# Altium footprint library Ahrist_Library.PcbLib: 172 footprints (part 9 of 11)
Each footprint in its own frame and in the unit in brackets; x right, y up, seen from the top. Pads: shape width x height; smd on the part's side, far side on the other; paste and mask are expansions set on the pad; w line width, h text height; cw(c..) or ccw(c..) is an arc to the next point about the centre after c.
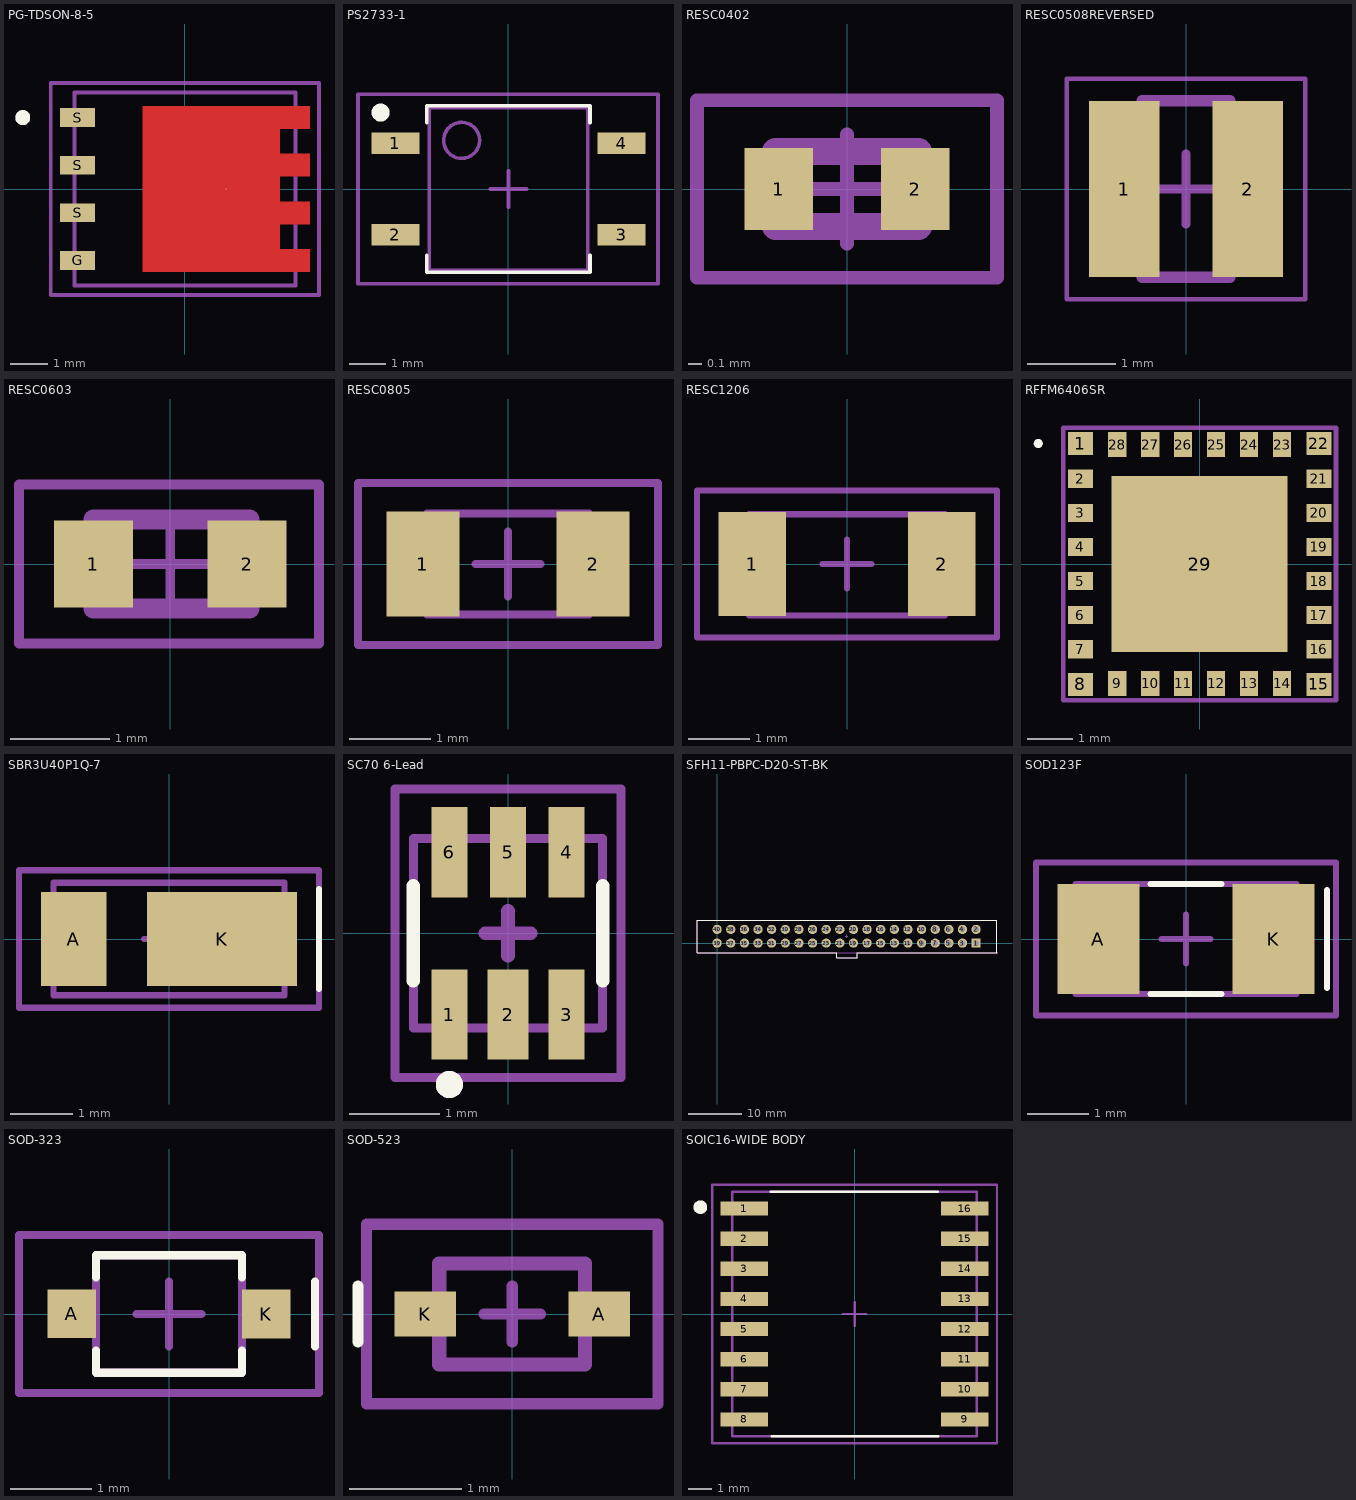
[diagram p8: the footprints below, top view; thin cyan lines are the x and y axes]

## PG-TDSON-8-5 [mm] "PG-TDSON-8-5 MOSFET Pacakge"
pads (5):
  round 0.025 smd: D(1.097,0)
  rect 0.925x0.5 smd paste-0.05: G(-2.865,-1.905) S(-2.865,-0.635) S(-2.865,0.635) S(-2.865,1.905)
Top Layer:
  region: 3.325,1.605 2.525,1.605 2.525,0.935 3.325,0.935 3.325,0.335 2.525,0.335 2.525,-0.335 3.325,-0.335 3.325,-0.935 2.525,-0.935 2.525,-1.605 3.325,-1.605 3.325,-2.205 -1.13,-2.205 -1.13,2.205 3.325,2.205
Top Overlay:
  circle w0.2: c-4.327,1.905 r0.1
Top Paste:
  region: 2.325,-1.6 0.825,-1.6 0.825,-0.1 2.325,-0.1
  region: 0.625,-1.6 -0.875,-1.6 -0.875,-0.1 0.625,-0.1
  region: 2.325,0.1 0.825,0.1 0.825,1.6 2.325,1.6
  region: 0.625,0.1 -0.875,0.1 -0.875,1.6 0.625,1.6
  region: 3.275,-2.155 2.525,-2.155 2.525,-1.655 3.275,-1.655
  region: 3.275,-0.885 2.525,-0.885 2.525,-0.385 3.275,-0.385
  region: 3.275,0.385 2.525,0.385 2.525,0.885 3.275,0.885
  region: 3.275,1.655 2.525,1.655 2.525,2.155 3.275,2.155
Top Solder:
  region: 3.425,1.505 2.625,1.505 2.625,1.035 3.425,1.035 3.425,0.235 2.625,0.235 2.625,-0.235 3.425,-0.235 3.425,-1.035 2.625,-1.035 2.625,-1.505 3.425,-1.505 3.425,-2.305 -1.23,-2.305 -1.23,2.305 3.425,2.305
Top Courtyard:
  lines w0.1: -3.578,-2.825 -3.578,2.825 3.575,2.825 3.575,-2.825 -3.578,-2.825
Top Assembly:
  circle w0.2: c-4.327,1.905 r0.1
  lines w0.1: -2.95,-2.575 2.95,-2.575 2.95,2.575 -2.95,2.575 -2.95,-2.575
  text ".Designator" at -2,-0.214 h1.52
Top Component Center:
  lines w0.1: -0.5,0 0,0 ; 0,0.5 0,0 ; 0,0 0,-0.5 0,0 ; 0,0 0.5,0 0,0
3D body "step_temp.STEP": height 1.1, standoff 0, extent -3.075,-2.575 3.075,2.575

## PS2733-1 [mm] "Transistor Output Optocouplers Hi Col-Emit Dar 1-Ch"
pads (4):
  rrect1% 1.325x0.6 smd: 1(-3.137,1.27) 2(-3.137,-1.27) 3(3.137,-1.27) 4(3.137,1.27)
Top Overlay:
  circle w0.25: c-3.55,2.12 r0.125
  lines w0.1: -2.264,-1.833 -2.264,-2.314 2.264,-2.314 2.264,-1.833 ; -2.264,1.833 -2.264,2.314 2.264,2.314 2.264,1.833
Top Courtyard:
  lines w0.1: -4.175,-2.625 4.15,-2.625 4.15,2.625 -4.175,2.625 -4.175,-2.625
Top Assembly:
  circle w0.1: c-1.3,1.35 r0.5
  lines w0.1: -2.2,-2.25 -2.2,2.25 2.2,2.25 2.2,-2.25 -2.2,-2.25
  text ".Designator" at -0.725,-0.239 h1.52
Top Component Center:
  lines w0.1: -0.5,0 0.5,0 ; 0,-0.5 0,0.5
3D body "SOP254P700X230_HS-5_SOP-OPTO3.STEP": height 0.25, standoff 0, extent -3.9,-2.35 3.9,2.35

## RESC0402 [mm] "Chip Resistor, 2-Leads, Body 1.00x0.50mm, IPC Medium Density"
pads (2):
  rect 0.5x0.6 smd mask+0.1: 1(-0.5,0) 2(0.5,0)
Top Courtyard:
  lines w0.1: -1.1,-0.65 -1.1,0.65 -0.5,0.65 1.1,0.65 1.1,-0.65 -1.1,-0.65
Top Assembly:
  lines w0.2: -0.525,-0.275 0.525,-0.275 0.525,0.275 -0.525,0.275 -0.525,-0.275
  text ".Designator" at 0.595,-0.105 h0.3
Top Component Center:
  lines w0.1: -0.4,0 0,0 ; 0,-0.4 0,0 ; 0,0.4 0,0 ; 0.4,0 0,0
3D body "RES0402.STEP": height 0.18, standoff -0.18, extent -0.5,-0.255 0.5,0.255

## RESC0508REVERSED [mm]
pads (2):
  rect 0.8x2 smd: 1(-0.7,0) 2(0.7,0)
Top Courtyard:
  lines w0.05: -1.35,-1.25 1.35,-1.25 1.35,1.25 -1.35,1.25 -1.35,-1.25
Top Assembly:
  lines w0.127: -0.5,-1 0.5,-1 0.5,1 -0.5,1 -0.5,-1
  text ".Designator" at -0.43,0.237 h0.5
Top Component Center:
  lines w0.1: -0.4,0 0,0 ; 0,-0.4 0,0 ; 0,0.4 0,0 ; 0.4,0 0,0
3D body "step_temp.STEP": height 0.5, standoff 0, extent -0.625,-1 0.625,1

## RESC0603 [mm] "Chip Resistor, 2-Leads, Body 1.60x0.80mm, IPC Medium Density"
height 0.64
pads (2):
  rect 0.8x0.875 smd mask+0.1: 1(-0.774,0) 2(0.774,0)
Top Courtyard:
  lines w0.1: -1.525,-0.8 -1.525,0.8 -0.775,0.8 1.5,0.8 1.5,-0.8 -1.525,-0.8
Top Assembly:
  lines w0.2: -0.775,-0.45 0.8,-0.45 0.8,0.45 -0.775,0.45 -0.775,-0.45
  text ".Designator" at -0.375,-0.058 h0.2
Top Component Center:
  lines w0.1: -0.4,0 0,0 ; 0,-0.4 0,0 ; 0,0.4 0,0 ; 0,0 0.4,0 0,0
3D body "RES0603.STEP": height 0.45, standoff -0.01, extent -0.775,-0.43 0.775,0.43

## RESC0805 [mm] "Chip Resistor, 2-Leads, Body 1.00x0.50mm, IPC Medium Density"
height 0.35
pads (2):
  rect 0.9x1.3 smd: 1(-1.05,0) 2(1.05,0)
Top Courtyard:
  lines w0.1: -1.85,-1 1.85,-1 1.85,1 -1.175,1 -1.85,1 -1.85,-1
Top Assembly:
  lines w0.1: -1,-0.625 1,-0.625 1,0.625 -1,0.625 -1,-0.625
Top Designator:
  text ".Designator" at -0.775,-0.158 h0.5
Top Component Center:
  lines w0.1: 0,-0.4 0,0 ; 0,0 0,0.4 0,0 ; 0,0 -0.4,0 0.4,0 0,0
3D body "RES0805.STEP": height 0.45, standoff 0, extent -1,-0.63 1,0.63

## RESC1206 [mm] "Chip Resistor, 2-Leads, Body 3.2x1.60mm, IPC Medium Density"
pads (2):
  rect 1.1x1.7 smd mask+0.1: 1(-1.55,0) 2(1.55,0)
Top Courtyard:
  lines w0.1: -1.5,1.2 -2.45,1.2 ; -2.45,1.2 -2.45,-1.2 2.45,-1.2 2.45,1.2 -2.45,1.2
Top Assembly:
  lines w0.1: -1.6,-0.838 -1.6,0.813 1.6,0.813 1.6,-0.838 -1.6,-0.838
Top Designator:
  text ".Designator" at -0.968,-0.303 h0.7
Top Component Center:
  lines w0.1: 0,-0.4 0,0 ; 0,0 0,0.4 0,0 ; 0,0 -0.4,0 0.4,0 0,0
3D body "1206.step": height 0.5, standoff 0, extent -1.6,-0.8 1.6,0.8

## RFFM6406SR [mm] "RFFM6406SR - LGA-28"
pads (29):
  rect 0.55x0.5 smd mask+0.075: 1(-2.625,2.65) 8(-2.625,-2.65) 15(2.625,-2.65) 22(2.625,2.65)
  rect 0.55x0.4 smd mask+0.075: 2(-2.625,1.875) 3(-2.625,1.125) 4(-2.625,0.375) 5(-2.625,-0.375) 6(-2.625,-1.125) 7(-2.625,-1.875) 16(2.625,-1.875) 17(2.625,-1.125) 18(2.625,-0.375) 19(2.625,0.375) 20(2.625,1.125) 21(2.625,1.875)
  rect 0.4x0.55 smd mask+0.075: 9(-1.813,-2.625) 10(-1.088,-2.625) 11(-0.363,-2.625) 12(0.363,-2.625) 13(1.088,-2.625) 14(1.813,-2.625) 23(1.813,2.625) 24(1.088,2.625) 25(0.363,2.625) 26(-0.363,2.625) 27(-1.088,2.625) 28(-1.813,2.625)
  rect 3.875x3.875 smd mask+0.075: 29(0,0)
Top Overlay:
  lines w0.1: -3.6,2.65 ccw(c-3.55,2.65) -3.5,2.65 ccw(c-3.55,2.65) -3.6,2.65
Top Assembly:
  circle w0.1: c-2.613,2.626 r0.049
  lines w0.1: -3,-3 3,-3 3,3 -3,3 -3,-3
Top Designator:
  text ".Designator" at -0.927,-0.144 h0.6
Top Component Outline:
  lines w0.1: -3,-3 3,-3 3,3 -3,3 -3,-3
Top Component Center:
  lines w0.1: -0.25,0 0,0 ; 0,-0.25 0,0 ; 0,0.25 0,0 ; 0.25,0 0,0
3D body "RFFM6406SR.stp": height 1.15, standoff 0, extent -3,-3 3,3

## SBR3U40P1Q-7 [mm] "Schottky Diodes & Rectifiers 3.0A SBR PowerDI 40Vrrm 0.47Vf 400uA"
pads (2):
  rect 1.05x1.5 smd mask+0.1: A(-1.525,0)
  rect 2.4x1.5 smd mask+0.1: K(0.85,0)
Top Overlay:
  lines w0.1: 2.4,-0.8 2.4,0 2.4,0.8
Top Courtyard:
  lines w0.1: -2.4,-1.1 -2.4,-0.025 -2.4,1.1 2.4,1.1 2.4,-1.1 -2.4,-1.1
Top Assembly:
  lines w0.1: -1.85,-0.9 -1.85,0.9 1.85,0.9 1.85,-0.9 -1.85,-0.9
Top Designator:
  text ".Designator" at -0.705,-0.088 h0.5
Top Component Center:
  lines w0.1: -0.4,0 0,0 ; 0,-0.4 0,0 ; 0,0.4 0,0 ; 0.4,0 0,0
3D body "SBR3U40P1-7.STEP": height 1, standoff 0, extent -1.85,-0.89 1.85,0.89

## SC70 6-Lead [mm]
pads (6):
  rect 0.4x1 smd mask+0.075: 1(-0.65,-0.9) 3(0.65,-0.9) 4(0.65,0.9) 5(0,0.9) 6(-0.65,0.9)
  rect 0.45x1 smd mask+0.075: 2(0,-0.9)
Top Overlay:
  circle w0.2: c-0.65,-1.675 r0.05
  lines w0.15: -1.05,-0.525 -1.05,0 -1.05,0.525 ; 1.05,-0.525 1.05,0 1.05,0.525
Top Courtyard:
  lines w0.1: -1.25,-1.6 1.25,-1.6 1.25,1.6 -0.6,1.6 -1.25,1.6 -1.25,-1.6
Top Assembly:
  circle w0.2: c-0.65,-1.675 r0.05
  lines w0.1: -1.05,0.225 -1.05,1.05 1.05,1.05 1.05,-1.05 -1.05,-1.05 -1.05,0.275
Top Designator:
  text ".Designator" at -0.59,-0.065 h0.6
Top Component Outline:
  lines w0.1: -1.05,0.225 -1.05,1.05 1.05,1.05 1.05,-1.05 -1.05,-1.05 -1.05,0.275
Top Component Center:
  lines w0.15: 0,-0.25 0,0 ; 0,0 0,0.25 0,0 ; 0,0 0.25,0 -0.25,0 0,0
3D body "PE4259.STEP": height 1.1, standoff 0, extent -1.05,-1.05 1.05,1.05

## SFH11-PBPC-D20-ST-BK [mm] "CONN HDR 40POS 0.1 GOLD PCB"
pads (40):
  rect 1.72x1.72 hole 1.02: 1(48.26,0)
  round 1.72 hole 1.02: 2(48.26,2.54) 3(45.72,0) 4(45.72,2.54) 5(43.18,0) 6(43.18,2.54) 7(40.64,0) 8(40.64,2.54) 9(38.1,0) 10(38.1,2.54) 11(35.56,0) 12(35.56,2.54) 13(33.02,0) 14(33.02,2.54) 15(30.48,0) 16(30.48,2.54) 17(27.94,0) 18(27.94,2.54) 19(25.4,0) 20(25.4,2.54) 21(22.86,0) 22(22.86,2.54) 23(20.32,0) 24(20.32,2.54) 25(17.78,0) 26(17.78,2.54) 27(15.24,0) 28(15.24,2.54) 29(12.7,0) 30(12.7,2.54) 31(10.16,0) 32(10.16,2.54) 33(7.62,0) 34(7.62,2.54) 35(5.08,0) 36(5.08,2.54) 37(2.54,0) 38(2.54,2.54) 39(0,0) 40(0,2.54)
Top Overlay:
  lines w0.1: 22.3,-1.825 22.3,-1.775 ; 26.1,-1.925 26.1,-1.76 52.15,-1.76 52.15,1.27 52.15,4.3 -3.75,4.3 -3.75,-1.775 22.3,-1.775 ; 26.1,-1.775 26.1,-2.775 22.3,-2.775 22.3,-1.775
Top Assembly:
  lines w0.1: -3.75,-1.76 52.15,-1.76 52.15,1.27 52.15,4.3 -3.75,4.3 -3.75,-1.75
  text ".Designator" at 20.085,0.985 h0.6
Top Component Outline:
  lines w0.1: 22.3,-1.825 22.3,-1.775 ; 26.1,-1.925 26.1,-1.76 52.15,-1.76 52.15,1.27 52.15,4.3 -3.75,4.3 -3.75,-1.775 22.3,-1.775 ; 26.1,-1.775 26.1,-2.775 22.3,-2.775 22.3,-1.775
Top Component Center:
  lines w0.1: 23.875,1.275 24.125,1.275 24.125,1.025 ; 24.13,1.52 24.13,1.27 24.38,1.27
3D body "SFH11-PBPC-D20-ST-BK--3DModel-STEP-56544.STEP": height 8.51, standoff -3.2, extent -3.74,-2.713 52.14,4.297

## SMBJ188A [mm] "328V Clamp 2A Ipp Tvs Diode Surface Mount DO-214AA (SMBJ)"

## SOD123F [mm] "SOD123F"
pads (2):
  rect 1.34x1.8 smd mask+0.1: A(-1.43,0) K(1.43,0)
Top Overlay:
  lines w0.1: -0.575,-0.9 0.575,-0.9 ; -0.575,0.9 0.575,0.9 ; 2.3,-0.8 2.3,0 2.3,0.8
Top Courtyard:
  lines w0.1: -2.45,-1.25 -1.05,-1.25 2.45,-1.25 2.45,1.25 -2.45,1.25 -2.45,-1.25
Top Assembly:
  lines w0.1: -1.8,-0.9 -1.8,0.9 -0.5,0.9 1.8,0.9 1.8,-0.9 -1.8,-0.9
  text ".Designator" at -0.83,-0.13 h0.3
Top Component Center:
  lines w0.1: -0.4,0 0,0 ; 0,-0.4 0,0 ; 0,0.4 0,0 ; 0.4,0 0,0
3D body "SOD-123F.step": height 1.02, standoff 0, extent -1.9,-0.9 1.9,0.9

## SOD-323 [mm] "SOD-323 small outline"
pads (2):
  rect 0.6x0.6 smd mask+0.1: A(-1.2,0.001) K(1.2,0)
Top Overlay:
  lines w0.1: -0.9,-0.45 -0.9,-0.725 0.9,-0.725 0.9,-0.45 ; -0.9,0.45 -0.9,0.725 0.9,0.725 0.9,0.45 ; 1.8,-0.4 1.8,0 1.8,0.4
Top Courtyard:
  lines w0.1: -1.85,-0.975 -1.85,0.975 1.85,0.975 1.85,0.05 1.85,-0.975 -0.025,-0.975 -1.85,-0.975
Top Assembly:
  lines w0.1: -0.9,-0.725 -0.9,0.725 0.9,0.725 0.9,-0.725 0.05,-0.725 -0.9,-0.725
Top Component Center:
  lines w0.1: -0.4,0 0,0 ; 0,-0.4 0,0 ; 0,0.4 0,0 ; 0.4,0 0,0
3D body "SOD-323.STEP": height 1.17, standoff 0.02, extent -1.35,-0.723 1.35,0.723

## SOD-523 [mm] "SOD-523"
pads (2):
  rect 0.55x0.4 smd mask+0.05: A(0.775,0) K(-0.775,0)
Top Overlay:
  lines w0.1: -1.375,-0.25 -1.375,0.25
Top Courtyard:
  lines w0.1: -1.3,-0.8 -1.3,0.8 1.3,0.8 1.3,-0.8 -1.3,-0.8
Top Assembly:
  lines w0.127: -0.65,-0.45 -0.65,0.45 0.65,0.45 0.65,-0.45 -0.65,-0.45
Top Designator:
  text ".Designator" at -0.226,-0.105 h0.6
Top Component Outline:
  lines w0.127: -0.65,-0.45 -0.65,0.45 0.65,0.45 0.65,-0.45 -0.65,-0.45
Top Component Center:
  lines w0.1: 0,-0.25 0,0 ; 0,0 0,0.25 0,0 ; 0,0 0.25,0 -0.25,0 0,0
3D body "step_temp.STEP": height 0.65, standoff 0, extent -0.8,-0.4 0.8,0.4

## SOIC16-WIDE BODY [mm]
pads (16):
  rect 2x0.6 smd mask+0.1: 1(-4.65,4.445) 2(-4.65,3.175) 3(-4.65,1.905) 4(-4.65,0.635) 5(-4.65,-0.635) 6(-4.65,-1.905) 7(-4.65,-3.175) 8(-4.65,-4.445) 9(4.65,-4.445) 10(4.65,-3.175) 11(4.65,-1.905) 12(4.65,-0.635) 13(4.65,0.635) 14(4.65,1.905) 15(4.65,3.175) 16(4.65,4.445)
Top Overlay:
  circle w0.3: c-6.5,4.5 r0.14
  lines w0.1: -3.525,5.15 3.5,5.15 ; -3.5,-5.15 3.525,-5.15
Top Courtyard:
  lines w0.1: -6,-5.45 -6,4.175 -6,5.45 6,5.45 6,-5.45 -5.975,-5.45 -6,-5.45
Top Assembly:
  lines w0.1: -5.15,-5.15 -5.15,5.15 5.15,5.15 5.15,-5.15 -5.15,-5.15
  text ".Designator" at -0.93,-0.263 h0.5
Top Component Center:
  lines w0.1: 0,-0.5 0,0 ; 0,0 -0.5,0 0.5,0 0,0 ; 0,0 0,0.5 0,0
3D body "AMC3311DWER--3DModel-STEP-740395.STEP": height 2.65, standoff 0, extent -5.15,-5.15 5.15,5.15